# Altium schematic symbol library Schlib1.SchLib: 7 symbols
Pins are listed as number, name and electrical type; pins without a type are passive.

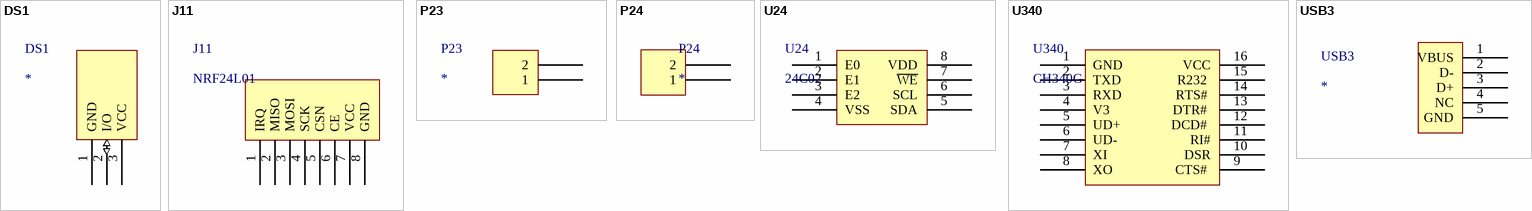
[diagram p0: symbols DS1 to USB3]

## DS1
designator DS1
pins: 1 GND, 2 I/O (io), 3 VCC

## J11
designator J11, comment NRF24L01
pins: 1 IRQ, 2 MISO, 3 MOSI, 4 SCK, 5 CSN, 6 CE, 7 VCC, 8 GND

## P23
designator P23
pins: ?1 1, ?2 2

## P24
designator P24
pins: ?1 1, ?2 2

## U24
designator U24, comment 24C02
pins: 1 E0, 2 E1, 3 E2, 4 VSS, 5 SDA, 6 SCL, 7 ~{WE}, 8 VDD

## U340
designator U340, comment CH340G
pins: 1 GND, 2 TXD, 3 RXD , 4 V3, 5 UD+, 6 UD-, 7 XI , 8 XO, 9 CTS# , 10 DSR, 11 RI#, 12 DCD# , 13 DTR# , 14 RTS# , 15 R232 , 16 VCC

## USB3
designator USB3
pins: 1 VBUS, 2 D-, 3 D+, 4 NC, 5 GND